# Altium schematic symbol library XT.SchLib: 3 symbols
Pins are listed as number, name and electrical type; pins without a type are passive.

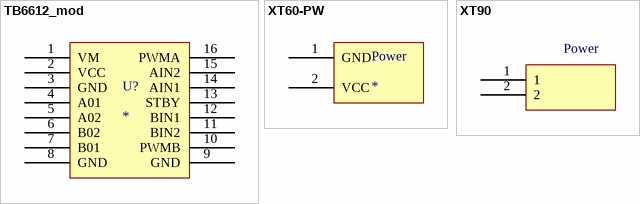
[diagram p0: symbols TB6612_mod to XT90]

## TB6612_mod
designator U?
footprint TB6612_mod
pins: 1 VM, 2 VCC, 3 GND, 4 A01, 5 A02, 6 B02, 7 B01, 8 GND, 9 GND, 10 PWMB, 11 BIN2, 12 BIN1, 13 STBY, 14 AIN1, 15 AIN2, 16 PWMA

## XT60-PW
designator Power
footprint XT60-PW
pins: 1 GND, 2 VCC

## XT90
designator Power
footprint PCBComponent_1
pins: 1, 2